# Altium schematic symbol library HDR1X6.SchLib: 1 symbol
Pins are listed as number, name and electrical type; pins without a type are passive.

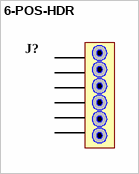
[diagram p0: symbol 6-POS-HDR]

## 6-POS-HDR
designator J?, comment 6-POS VERTICAL HEADER  (value not drawn)
footprint HDR1X6 (Footprint not found)
signal-integrity model Connector
pins: 1, 2, 3, 4, 5, 6